# Altium footprint library Lib.PcbLib: 1 footprints
Each footprint in its own frame and in the unit in brackets; x right, y up, seen from the top. Pads: shape width x height; smd on the part's side, far side on the other; paste and mask are expansions set on the pad; w line width, h text height; cw(c..) or ccw(c..) is an arc to the next point about the centre after c.
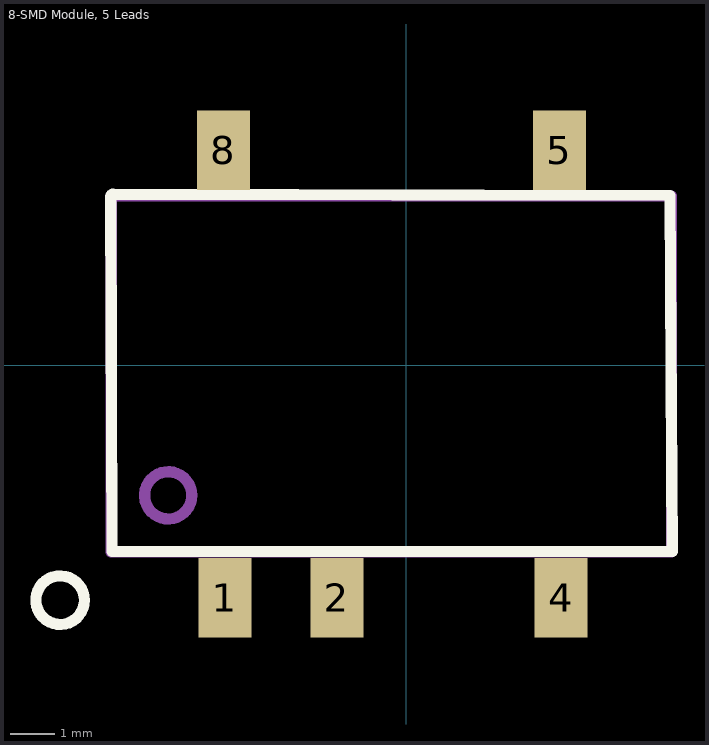
[diagram p0: the footprint, top view; thin cyan lines are the x and y axes]

## 8-SMD Module, 5 Leads [mm] "Footprint for 8-SMD Module, 5 Leads ICs"
pads (5):
  rect 1.2x1.8 smd paste-2539.97 mask-2539.97: 1(-4.113,-5.273) 2(-1.573,-5.273) 4(3.507,-5.273) 5(3.47,4.875) 8(-4.15,4.875)
Top Overlay:
  circle w0.254: c-7.85,-5.325 r0.551
  lines w0.254: -6.7,3.825 cw(c-6.65,3.825) -6.65,3.875 5.975,3.85 6.025,-4.225 -6.675,-4.225 -6.7,3.825
Top Solder:
  region: -2.223,-4.323 -2.223,-6.223 -0.923,-6.223 -0.923,-4.323
  region: -4.763,-4.323 -4.763,-6.223 -3.463,-6.223 -3.463,-4.323
  region: 2.857,-4.323 2.857,-6.223 4.157,-6.223 4.157,-4.323
  region: -4.8,3.925 -4.8,5.825 -3.5,5.825 -3.5,3.925
  region: 2.82,3.925 2.82,5.825 4.12,5.825 4.12,3.925
Top Assembly:
  circle w0.254: c-5.4,-2.95 r0.535
  lines w0.254: -6.69,-4.233 -6.69,3.835 6.01,3.835 6.01,-4.233 -6.69,-4.233
  text "'.Designator'" at -3.45,-1.75 h1.52
3D body "R1S-1205_H.step": height 6.95, standoff 0, extent -6.575,-5.65 6.175,5.45